# Altium footprint library custom-case.PcbLib: 168 footprints (part 10 of 11)
Each footprint in its own frame and in the unit in brackets; x right, y up, seen from the top. Pads: shape width x height; smd on the part's side, far side on the other; paste and mask are expansions set on the pad; w line width, h text height; cw(c..) or ccw(c..) is an arc to the next point about the centre after c.
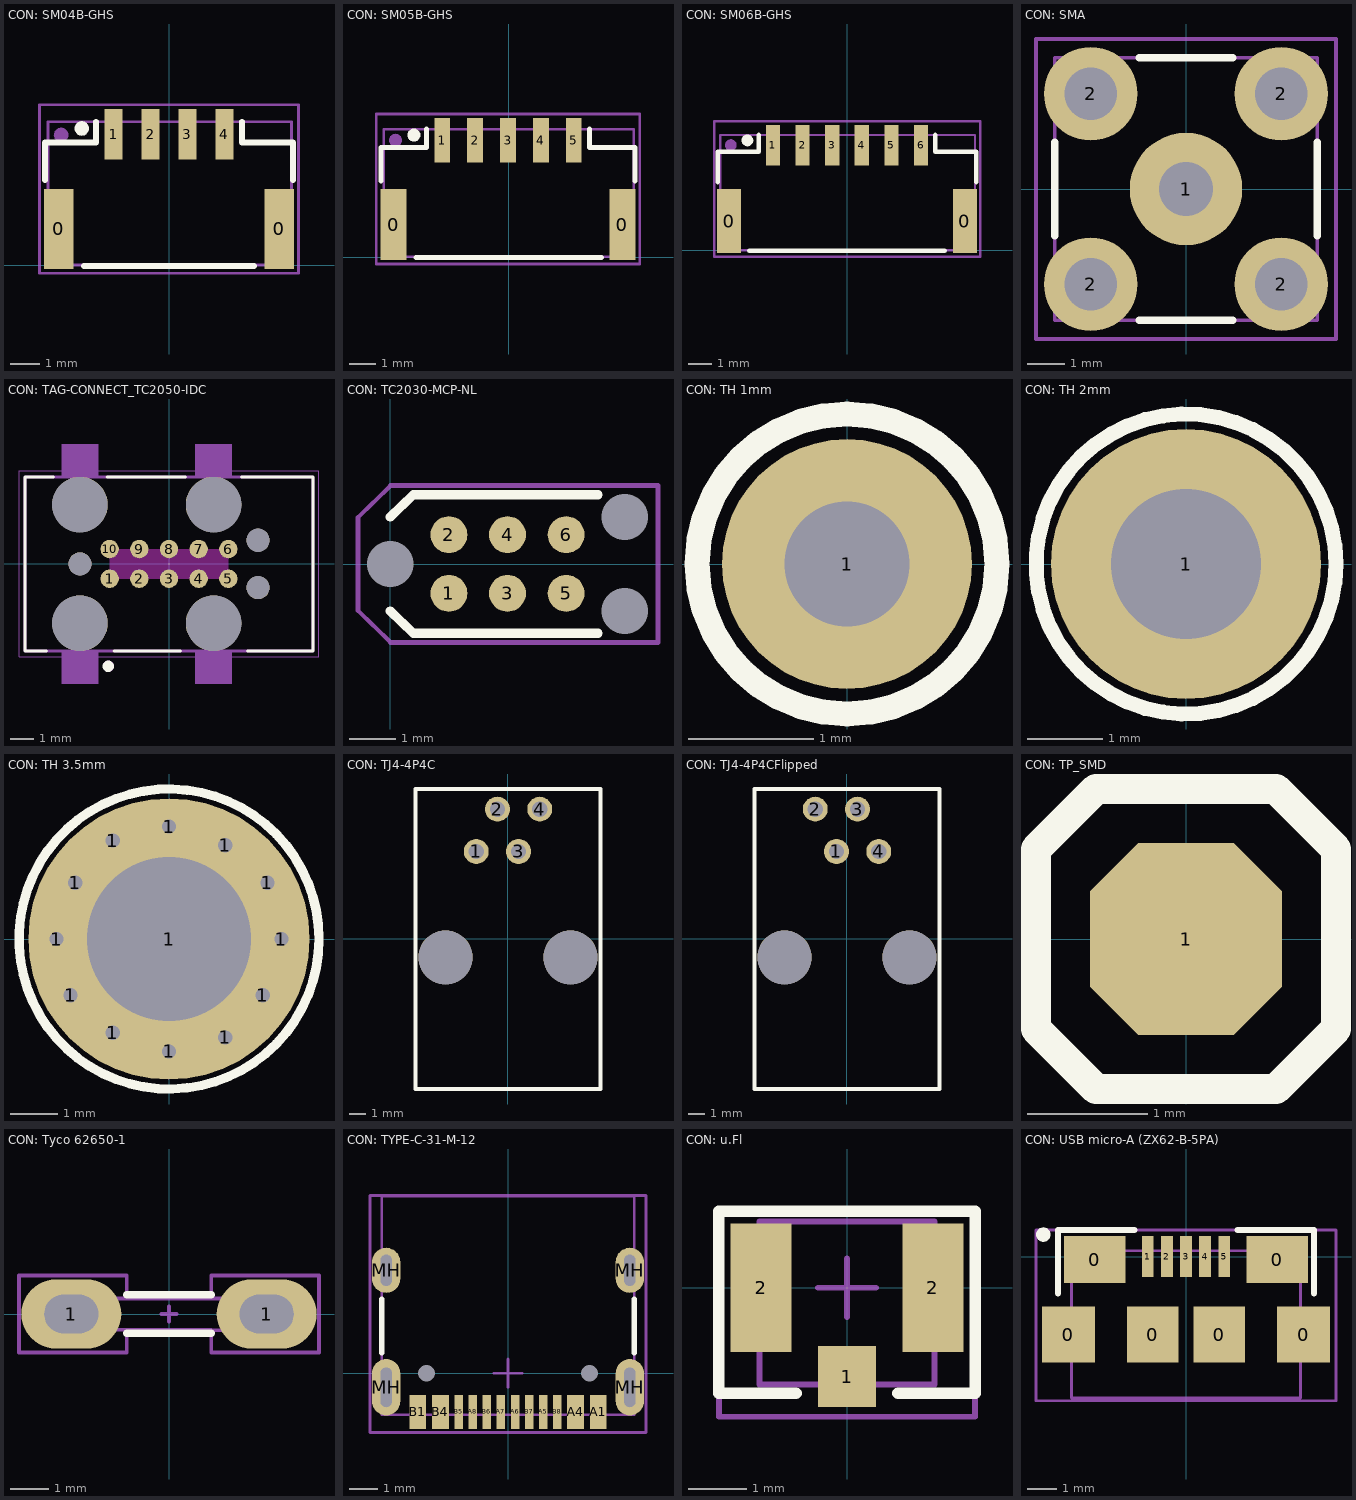
[diagram p9: the footprints below, top view; thin cyan lines are the x and y axes]

## CON: SM04B-GHS [mm]
pads (8):
  rect 1x2.7 smd: 0(-3.725,1.225) 0(3.725,1.225)
  rect 0.6x1.7 smd: 1(-1.875,4.425) 2(-0.625,4.425) 3(0.625,4.425) 4(1.875,4.425)
  round 0.5 on Mech13: ""(-3.65,4.4)
  round 0.5 on Top Overlay: ""(-2.95,4.625)
Top Overlay:
  lines w0.2: -4.2,2.875 -4.2,4.15 -2.475,4.15 -2.475,4.85 ; -2.875,-0.025 2.875,-0.025 ; 2.475,4.85 2.475,4.15 4.2,4.15 4.2,2.875
Top Assy:
  lines w0.1: -4.1,0 -4.1,4.85 4.15,4.85 4.15,0 -4.1,0
Size Area:
  lines w0.1: -4.375,-0.275 4.375,-0.275 4.375,5.425 -4.375,5.425 -4.375,-0.275
3D body "SM04B-GHS-TB.STEP": height 4.32, standoff -0.03, extent -4.1,0 4.15,4.85

## CON: SM05B-GHS [mm]
pads (9):
  rect 1x2.7 smd: 0(-4.375,1.25) 0(4.325,1.25)
  rect 0.6x1.7 smd: 1(-2.525,4.45) 2(-1.275,4.45) 3(-0.025,4.45) 4(1.225,4.45) 5(2.475,4.45)
  round 0.5 on Mech1: ""(-4.3,4.45)
  round 0.5 on Top Overlay: ""(-3.6,4.65)
Top Overlay:
  lines w0.2: -4.85,2.9 -4.85,4.175 -3.125,4.175 -3.125,4.875 ; -3.525,0 3.525,0 ; 3.075,4.875 3.075,4.175 4.8,4.175 4.8,2.9
Top Assy:
  lines w0.1: -4.75,0.025 -4.75,4.875 4.75,4.875 4.75,0.025 -4.75,0.025
Size Area:
  lines w0.1: -5.025,-0.25 -5.025,5.45 4.975,5.45 4.975,-0.25 -5.025,-0.25
3D body "SM05B-GHS-TB.STEP": height 4.35, standoff 0, extent -4.75,0.025 4.75,4.875

## CON: SM06B-GHS [mm]
pads (10):
  rect 1x2.7 smd: 0(-4.975,1.225) 0(4.975,1.225)
  rect 0.6x1.7 smd: 1(-3.125,4.425) 2(-1.875,4.425) 3(-0.625,4.425) 4(0.625,4.425) 5(1.875,4.425) 6(3.125,4.425)
  round 0.5 on Mech1: ""(-4.9,4.425)
  round 0.5 on Top Overlay: ""(-4.2,4.625)
Top Overlay:
  lines w0.2: -5.45,2.875 -5.45,4.15 -3.725,4.15 -3.725,4.85 ; -4.125,-0.025 4.125,-0.025 ; 3.725,4.85 3.725,4.15 5.45,4.15 5.45,2.875
Top Assy:
  lines w0.1: -5.35,0 -5.35,4.85 5.4,4.85 5.4,0 -5.35,0
Size Area:
  lines w0.1: -5.6,-0.275 -5.6,5.425 5.625,5.425 5.625,-0.275 -5.6,-0.275
3D body "SM06B-GHS-TB.STEP": height 4.33, standoff -0.02, extent -5.35,0 5.4,4.85

## CON: SMA [mm]
pads (5):
  round 3 hole 1.45: 1(0,0)
  round 2.5 hole 1.4: 2(-2.54,-2.54) 2(-2.54,2.54) 2(2.54,-2.54) 2(2.54,2.54)
Top Overlay:
  lines w0.2: -3.5,-1.25 -3.5,1.25 ; -1.25,-3.5 1.25,-3.5 ; -1.25,3.5 1.25,3.5 ; 3.5,-1.25 3.5,1.25
Top Assy:
  lines w0.1: -3.5,-3.5 3.5,-3.5 3.5,3.5 -3.5,3.5 -3.5,-3.5
Size Area:
  lines w0.1: -0.5,0 0.5,0 ; 0,-0.5 0,0.5 ; -4,-4 -4,4 4,4 4,-4 -4,-4
3D body "SMA_connector.STEP": height 9.53, standoff -3.94, extent -3.5,-3.5 3.5,3.5

## CON: TAG-CONNECT_TC2050-IDC [mil]
pads (17):
  round 31 smd paste-39.37: 1(-100,-25) 2(-50,-25) 3(0,-25) 4(50,-25) 5(100,-25) 6(100,25) 7(50,25) 8(0,25) 9(-50,25) 10(-100,25)
  round 93.5 hole 93.5 unplated: ""(-150,-100) ""(-150,100) ""(75,-100) ""(75,100)
  round 39 hole 39 unplated: ""(-150,0) ""(150,-39.96) ""(150,39.96)
Top Overlay:
  circle w9.45: c-102.36,-172.49 r4.72
  lines w5: -206.69,-146.77 -242.91,-146.77 -242.91,146.77 -194.88,146.77 ; -104.33,146.77 27.56,146.77 ; -92.52,-146.77 19.68,-146.77 ; 122.05,146.77 242.91,146.77 242.91,-146.77 131.89,-146.77
Keep-Out Layer:
  drawing of 17 lines, arcs and shapes, not listed
3D model:
  circle w9.45: c-102.16,-172.49 r4.72
  lines w5: -242.91,-146.77 242.91,-146.77 242.91,146.77 -242.91,146.77 -242.91,-146.77
Size Area:
  lines w1.97: -252.76,-156.61 252.76,-156.61 252.76,156.61 -252.76,156.61 -252.76,-156.61
Mechanical 16:
  region: 105.49,145.91 44.58,145.91 44.58,201.65 105.49,201.65
  region: -119.51,145.93 -180.82,145.93 -180.82,201.65 -119.51,201.65
  region: -119.51,-201.91 -180.72,-201.91 -180.72,-145.67 -119.51,-145.67
  region: 105.49,-201.98 44.58,-201.98 44.58,-145.67 105.49,-145.67

## CON: TC2030-MCP-NL [mm]
pads (9):
  round 0.8 smd: 1(1.27,-0.635) 2(1.27,0.635) 3(2.54,-0.635) 4(2.54,0.635) 5(3.81,-0.635) 6(3.81,0.635)
  round 0.8 hole 1: ""(0,0) ""(5.08,-1.016) ""(5.08,1.016)
Top Overlay:
  lines w0.2: 0,-1.016 0.5,-1.5 1,-1.5 4.5,-1.5 ; 0,1.016 0.5,1.5 1,1.5 4.5,1.5
Size Area:
  lines w0.1: -0.7,-1.008 -0.7,1.008 0.003,1.7 5.8,1.7 5.8,-1.7 0.003,-1.7 -0.7,-1.008

## CON: TH 1mm [mm]
pads (1):
  round 2 hole 1 mask+0.075: 1(0,0)
Top Overlay:
  circle w0.2: c0,0 r1.2
Size Area:
  circle w0.1: c0,0 r1.2
  lines w0.1: -0.5,0 0.5,0 ; 0,-0.5 0,0.5

## CON: TH 2mm [mm]
pads (1):
  round 3.6 hole 2 mask+0.075: 1(0,0)
Top Overlay:
  circle w0.2: c0,0 r2
Size Area:
  circle w0.1: c0,0 r2
  lines w0.1: -0.5,0 0.5,0 ; 0,-0.5 0,0.5

## CON: TH 3.5mm [mm]
pads (13):
  round 0.7 hole 0.3: 1(-2.4,0) 1(-2.1,-1.2) 1(-2,1.2) 1(-1.2,-2) 1(-1.2,2.1) 1(0,-2.4) 1(0,2.4) 1(1.2,-2.1) 1(1.2,2) 1(2,-1.2) 1(2.1,1.2) 1(2.4,0)
  round 6 hole 3.5: 1(0,0)
Top Overlay:
  circle w0.2: c0,0 r3.2

## CON: TJ4-4P4C [mil] "TJ4-4P4C"
pads (6):
  round 59 hole 36 paste-99999 mask+2: 1(-75,206.69) 2(-25,306.69) 3(25,206.69) 4(75,306.69)
  round 127.95 hole 127.95 unplated paste-99999: ""(-147.64,-43.31) ""(147.64,-43.31)
Top Overlay:
  lines w10: -218.5,-354.33 218.5,-354.33 218.5,354.33 -218.5,354.33 -218.5,-354.33
Size Area:
  circle w59.05: c-147.64,-43.31 r29.53
  circle w59.05: c147.64,-43.31 r29.53
3D body "TJ4-4P4C.SLDPRT": height 452.76, standoff -137.8, extent -220.47,-351.38 220.47,357.28

## CON: TJ4-4P4CFlipped [mil]
pads (6):
  round 59 / inner round 59 / far side round 0 hole 36 unplated paste-99999: 1(-25,206.69) 2(-75,306.69) 3(25,306.69) 4(75,206.69)
  round 127.95 hole 127.95 unplated paste-99999: ""(-147.64,-43.31) ""(147.64,-43.31)
Top Overlay:
  lines w10: -218.5,-354.33 218.5,-354.33 218.5,354.33 -218.5,354.33 -218.5,-354.33
Size Area:
  circle w59.05: c-147.64,-43.31 r29.53
  circle w59.05: c147.64,-43.31 r29.53
3D body "TJ4-4P4C.STEP": height 78.74, standoff -511.81, extent -220.47,-351.38 220.47,357.28

## CON: TP_SMD [mm]
pads (1):
  oct 1.6x1.6 smd: 1(0,0)
Top Overlay:
  lines w0.254: -1.25,-0.75 -0.75,-1.25 0.75,-1.25 1.25,-0.75 1.25,0.75 0.75,1.25 0,1.25 -0.75,1.25 -1.25,0.75 -1.25,-0.75

## CON: Tyco 62650-1 [mm]
pads (2):
  oval 2.6x1.8 hole 1 slot 1.4 at 0 deg mask+0.075: 1(-2.54,0) 1(2.54,0)
Top Overlay:
  lines w0.2: -1.1,-0.5 1.1,-0.5 ; -1.1,0.5 1.1,0.5
Top Assy:
  lines w0.1: -3.563,-0.405 3.55,-0.425 3.55,0.4 -3.563,0.4 -3.563,-0.405
Size Area:
  lines w0.1: -0.2,0 0.2,0 ; 0,-0.2 0,0.2 ; -3.9,-1 -1.1,-1 -1.1,-0.412 1.1,-0.418 1.1,-1 3.9,-1 3.9,1 1.1,1 1.1,0.4 -1.1,0.4 -1.1,1 -3.9,1 -3.9,-1
3D body "Tyco 62650-1 v2.step": height 9.24, standoff -3.13, extent -3.555,-0.4 3.555,0.4

## CON: TYPE-C-31-M-12 [mm]
pads (18):
  rect 0.6x1.2 smd mask+0.075: A1(3.2,-1.375) A4(2.4,-1.375) B1(-3.2,-1.375) B4(-2.4,-1.375)
  rect 0.3x1.2 smd mask+0.075: A5(1.25,-1.375) A6(0.25,-1.375) A7(-0.25,-1.375) A8(-1.25,-1.375) B5(-1.75,-1.375) B6(-0.75,-1.375) B7(0.75,-1.375) B8(1.75,-1.375)
  oval 1x2 hole 0.4 slot 1.4 at 90 deg mask+0.075: MH(-4.32,-0.5) MH(4.32,-0.5)
  oval 1x1.6 hole 0.4 slot 1.1 at 90 deg mask+0.075: MH(-4.32,3.65) MH(4.32,3.65)
  round 0 hole 0.6 mask+0.075: MH(-2.89,0) MH(2.89,0)
Top Overlay:
  lines w0.2: -4.475,0.725 -4.475,2.625 ; 4.475,0.725 4.475,2.625
Top Assy:
  lines w0.1: -4.475,-1.475 -4.475,6.275 4.475,6.275 4.475,-1.475 -4.475,-1.475
Size Area:
  lines w0.1: -0.5,0 0.5,0 ; 0,-0.5 0,0.5 ; -4.9,-2.1 4.9,-2.1 4.9,6.3 -4.9,6.3 -4.9,-2.1
3D body "User Library-USB - C.STEP": height 3.26, standoff -1, extent -4.475,-1.475 4.475,6.275

## CON: u.Fl [mm]
height 1.5
pads (3):
  rect 1x1.05 smd: 1(0,-1.525)
  rect 1.05x2.2 smd: 2(-1.475,0) 2(1.475,0)
Top Overlay:
  lines w0.2: -0.875,-1.813 -2.2,-1.813 -2.2,1.312 2.2,1.312 2.2,-1.813 0.875,-1.813
Top Assy:
  lines w0.1: -1.5,-1.663 -1.5,1.137 1.5,1.137 1.5,-1.663 -1.5,-1.663
Size Area:
  lines w0.1: -0.5,0 0.5,0 ; 0,-0.5 0,0.5 ; -2.2,-2.213 2.2,-2.213 2.2,1.312 -2.2,1.312 -2.2,-2.213
3D body "IPX.step": height 1.27, standoff -0.01, extent -1.5,-1.712 1.5,1.138

## CON: USB micro-A (ZX62-B-5PA) [mm]
height 5
pads (12):
  rect 1.8x1.9 smd: 0(-4,-2.65) 0(4,-2.65)
  rect 2.1x1.6 smd: 0(-3.1,-0.1) 0(3.1,-0.1)
  rect 1.75x1.9 smd: 0(-1.125,-2.65) 0(1.125,-2.65)
  rect 0.4x1.4 smd: 1(-1.3,0) 2(-0.65,0) 3(0,0) 4(0.65,0) 5(1.3,0)
  round 0.5 on Top Overlay: ""(-4.85,0.75)
Top Overlay:
  lines w0.2: -4.35,-1.25 -4.35,0.9 -1.75,0.9 ; 1.75,0.9 4.35,0.9 4.35,-1.25
Top Assy:
  lines w0.1: -3.9,-4.8 3.9,-4.8 3.9,0.2 -3.9,0.2 -3.9,-4.8
Size Area:
  lines w0.1: -5.1,-4.9 5.1,-4.9 5.1,0.9 -5.1,0.9 -5.1,-4.9
3D body "User Library-micro usb SMD.STEP": height 2.68, standoff -0.02, extent -3.9,-4.8 3.9,0.2